# EAGLE library part SED9420 (library 8Bit_Parts)
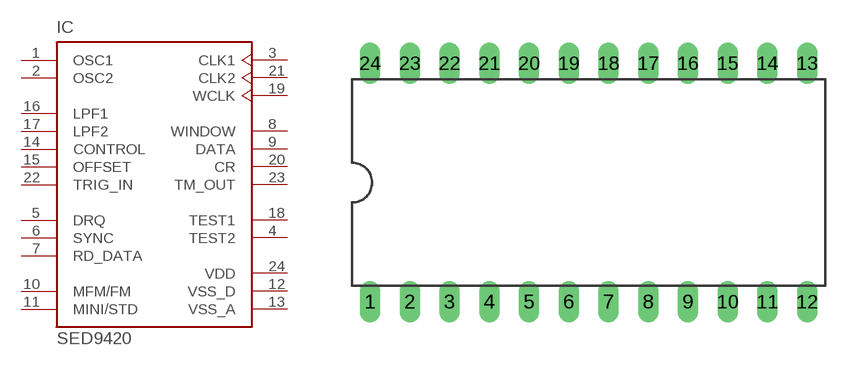
[diagram p14: symbol with the pads of DIL24-6; footprint DIL24-6]

Designator prefix IC

## SED9420  [DIL24-6]
1  OSC1  in
2  OSC2  in
3  CLK1  out
4  TEST2  nc
5  DRQ  in
6  SYNC  in
7  RD_DATA  in
8  WINDOW  out
9  DATA
10  MFM/FM  in
11  MINI/STD  in
12  VSS_D  pwr
13  VSS_A  pwr
14  CONTROL  in
15  OFFSET  in
16  LPF1  in
17  LPF2  in
18  TEST1  nc
19  WCLK  out
20  CR
21  CLK2  out
22  TRIG_IN  in
23  TM_OUT  out
24  VDD  pwr

## Footprint DIL24-6 (pad centres in mm)
Dual In Line Package 0.6 inch
drill 0.813 long: 1 -13.97,-7.62; 2 -11.43,-7.62; 3 -8.89,-7.62; 4 -6.35,-7.62; 5 -3.81,-7.62; 6 -1.27,-7.62; 7 1.27,-7.62; 8 3.81,-7.62; 9 6.35,-7.62; 10 8.89,-7.62; 11 11.43,-7.62; 12 13.97,-7.62; 13 13.97,7.62; 14 11.43,7.62; 15 8.89,7.62; 16 6.35,7.62; 17 3.81,7.62; 18 1.27,7.62; 19 -1.27,7.62; 20 -3.81,7.62; 21 -6.35,7.62; 22 -8.89,7.62; 23 -11.43,7.62; 24 -13.97,7.62